# Altium footprint library PCB - ANNOTATION - COMMENT.PCBLIB: 1 footprints
Each footprint in its own frame and in the unit in brackets; x right, y up, seen from the top. Pads: shape width x height; smd on the part's side, far side on the other; paste and mask are expansions set on the pad; w line width, h text height; cw(c..) or ccw(c..) is an arc to the next point about the centre after c.

## COMMENT [mm] "prints out the comment of a component"
Top Overlay:
  text ".Comment" at 1.143,-0.635 h2